# Altium schematic symbol library B39242B7520P810.SchLib: 2 symbols
Pins are listed as number, name and electrical type; pins without a type are passive.

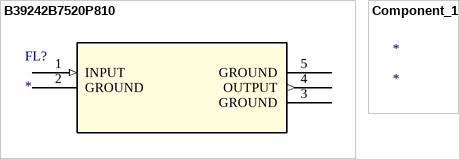
[diagram p0: symbols B39242B7520P810 to Component_1]

## B39242B7520P810
designator FL?
No Description Available; Mfr_Name: Qualcomm; Type: SAW Filters; RefDes: RefDes
footprint SMD5_SAW-B7520_QUA
pins: 1 INPUT (in), 2 GROUND (power), 3 GROUND (power), 4 OUTPUT (out), 5 GROUND (power)

## Component_1
designator *